# Altium footprint library CA_CANTHD63P141_H105_A.PcbLib: 1 footprints
Each footprint in its own frame and in the unit in brackets; x right, y up, seen from the top. Pads: shape width x height; smd on the part's side, far side on the other; paste and mask are expansions set on the pad; w line width, h text height; cw(c..) or ccw(c..) is an arc to the next point about the centre after c.
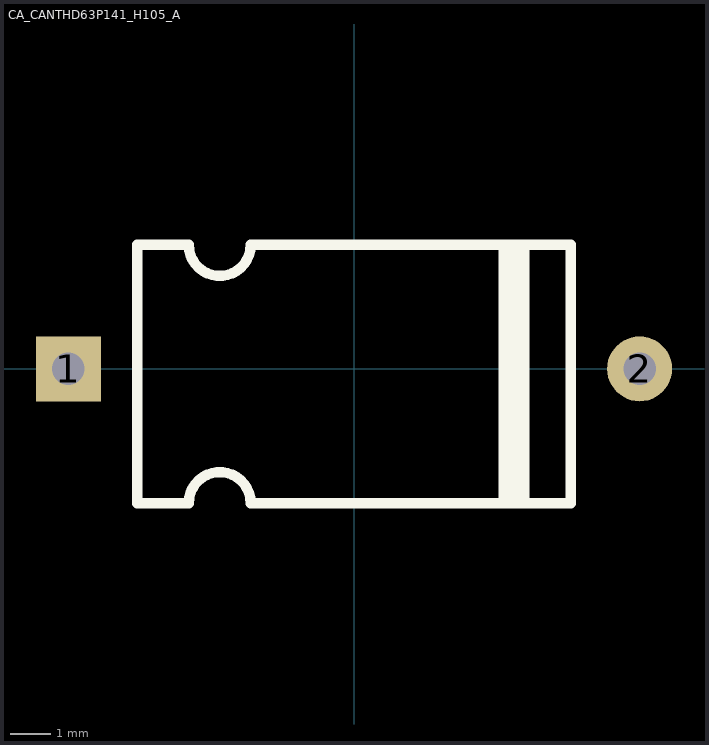
[diagram p0: the footprint, top view; thin cyan lines are the x and y axes]

## CA_CANTHD63P141_H105_A [mm] "Capacitor, Electrolytic, Axial; Body 10.5 x 6.3 mm (LxDia. max), Lead Dia. 0.6 mm (typ)"
height 6.3
pads (2):
  rect 1.6x1.6 hole 0.8: 1(-7.025,0)
  round 1.6 hole 0.8: 2(7.025,0)
Top Overlay:
  rectangle: 3.556,-3.302 4.318,3.048
  lines w0.254: -2.54,-3.302 ccw(c-3.302,-3.302) -4.064,-3.302 -5.334,-3.302 -5.334,3.048 -4.064,3.048 ccw(c-3.302,3.048) -2.54,3.048 5.334,3.048 5.334,-3.302 -2.499,-3.302
3D body: height 5.98, standoff 0, extent -5,-2.988 5,3